# EAGLE library part SPV1040 (library components)
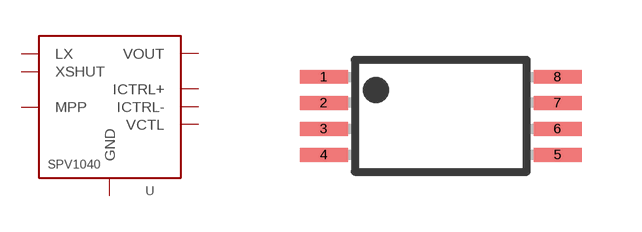
[diagram p9: symbol with the pads of TSSOP8; footprint TSSOP8]

Designator prefix -

## SPV1040  [TSSOP8]
1  MPP
2  GND
3  LX
4  VOUT
5  VCTL
6  ICTRL-
7  ICTRL+
8  XSHUT

## Footprint TSSOP8 (pad centres in mm)
Plastic Small Outline
smd 1.2 x 0.35: 1 -2.925,0.975; 2 -2.925,0.325; 3 -2.925,-0.325; 4 -2.925,-0.975; 5 2.925,-0.975; 6 2.925,-0.325; 7 2.925,0.325; 8 2.925,0.975